# Altium footprint library Connectors.PcbLib: 86 footprints (part 5 of 6)
Each footprint in its own frame and in the unit in brackets; x right, y up, seen from the top. Pads: shape width x height; smd on the part's side, far side on the other; paste and mask are expansions set on the pad; w line width, h text height; cw(c..) or ccw(c..) is an arc to the next point about the centre after c.
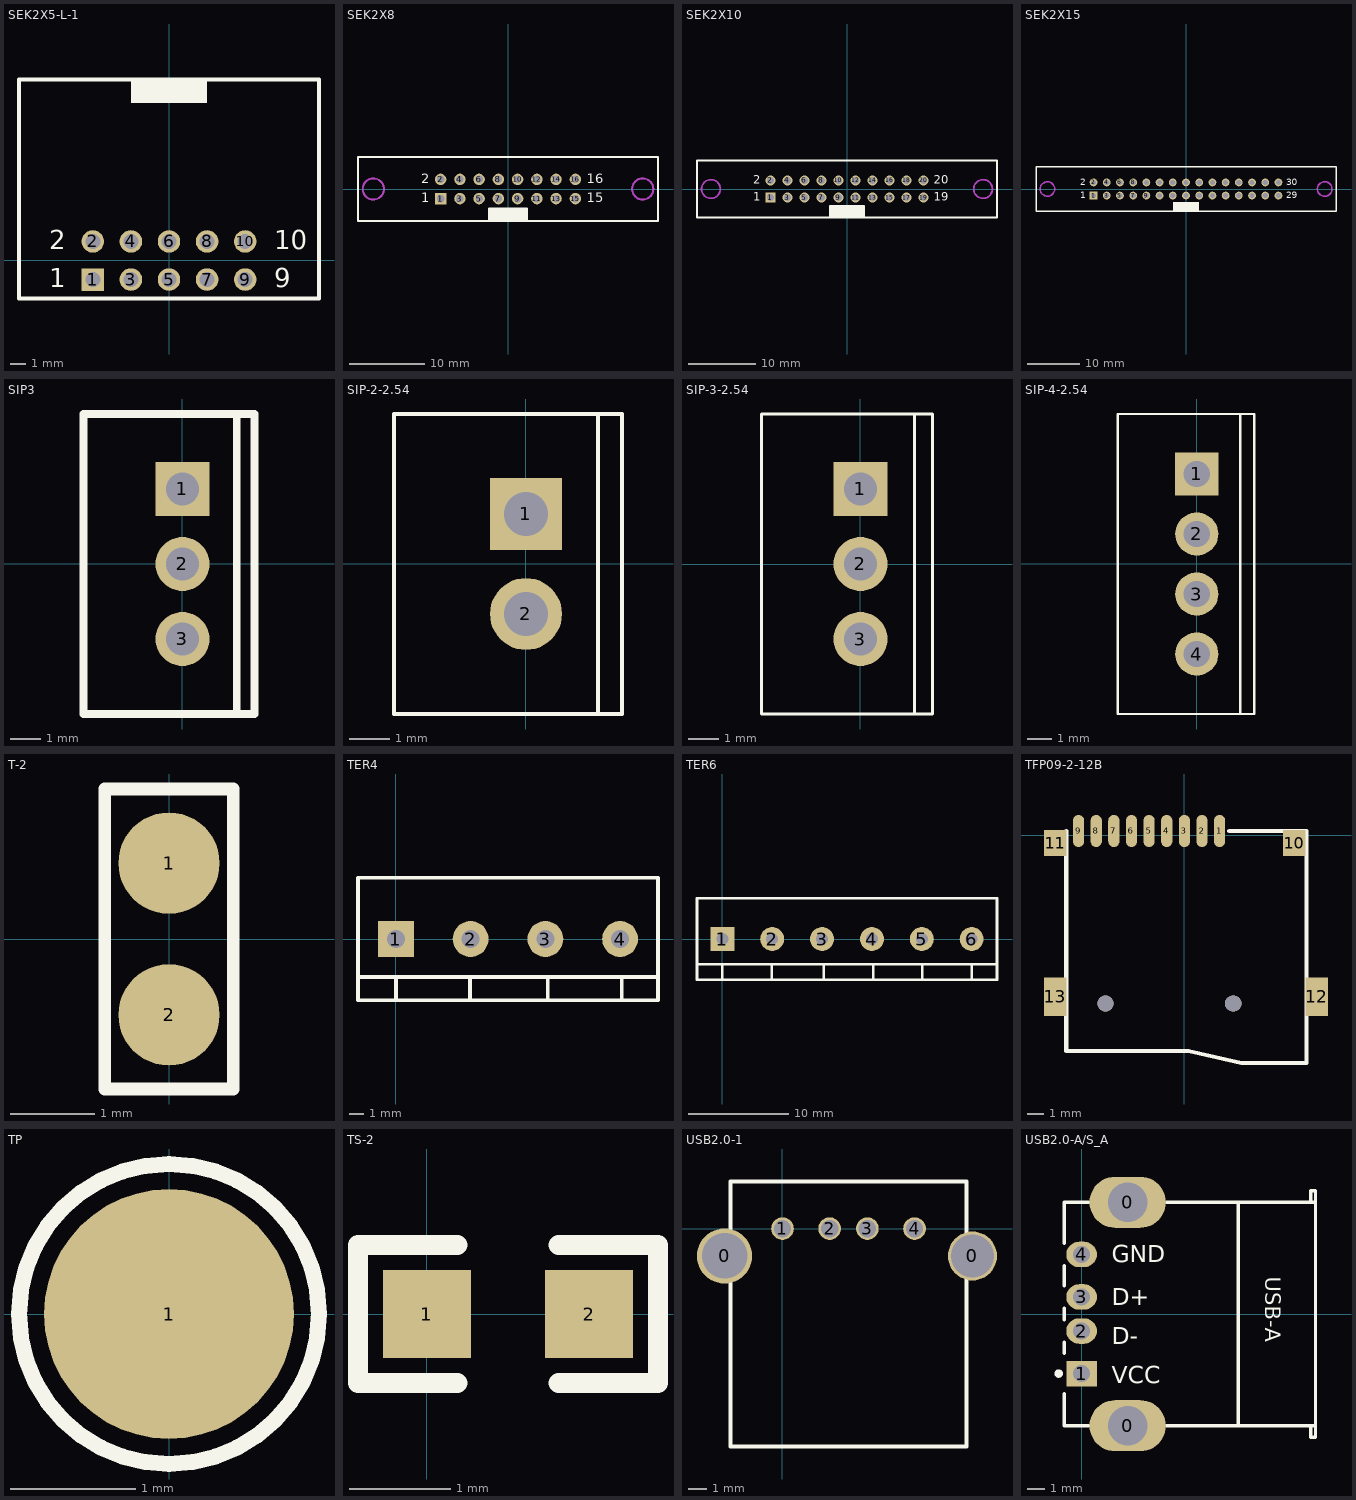
[diagram p4: the footprints below, top view; thin cyan lines are the x and y axes]

## SEK2X5-L-1 [mm] "Connector; Header; 5x2 Position"
pads (10):
  rect 1.5x1.5 hole 1: 1(-5.08,-1.27)
  round 1.5 hole 1: 2(-5.08,1.27) 3(-2.54,-1.27) 4(-2.54,1.27) 5(0,-1.27) 6(0,1.27) 7(2.54,-1.27) 8(2.54,1.27) 9(5.08,-1.27) 10(5.08,1.27)
Top Overlay:
  rectangle: -2.54,10.5 2.54,12
  lines w0.254: -10,-2.54 10,-2.54 10,12.07 -10,12.07 -10,-2.54
  text "2" at -8,0.762 h1.27
  text "1" at -8,-1.778 h1.27
  text "9" at 7,-1.778 h1.27
  text "10" at 7,0.762 h1.27

## SEK2X8 [mm] "Connector; Header; 2X8 Position"
pads (16):
  rect 1.5x1.5 hole 1: 1(-8.89,-1.27)
  round 1.5 hole 1: 2(-8.89,1.27) 3(-6.35,-1.27) 4(-6.35,1.27) 5(-3.81,-1.27) 6(-3.81,1.27) 7(-1.27,-1.27) 8(-1.27,1.27) 9(1.27,-1.27) 10(1.27,1.27) 11(3.81,-1.27) 12(3.81,1.27) 13(6.35,-1.27) 14(6.35,1.27) 15(8.89,-1.27) 16(8.89,1.27)
Top Overlay:
  rectangle: -2.54,-4.25 2.54,-2.54
  lines w0.254: -2.54,-4.25 -2.54,-2.54 2.54,-2.54 2.54,-4.25 ; -19.8,-4.25 -19.8,4.25 19.8,4.25 19.8,-4.25 -19.8,-4.25
  text "16" at 10.414,0.762 h1.27
  text "15" at 10.414,-1.778 h1.27
  text "1" at -11.43,-1.778 h1.27
  text "2" at -11.43,0.762 h1.27
Keep-Out Layer:
  circle w0.254: c17.78,0 r1.4
  circle w0.254: c-17.78,0 r1.4
Mechanical 1:
  circle w0.254: c-17.78,0 r1.4
  circle w0.254: c17.78,0 r1.4

## SEK2X10 [mm] "Connector; Header; 10x2 Position"
pads (20):
  rect 1.5x1.5 hole 1: 1(-11.43,-1.27)
  round 1.5 hole 1: 2(-11.43,1.27) 3(-8.89,-1.27) 4(-8.89,1.27) 5(-6.35,-1.27) 6(-6.35,1.27) 7(-3.81,-1.27) 8(-3.81,1.27) 9(-1.27,-1.27) 10(-1.27,1.27) 11(1.27,-1.27) 12(1.27,1.27) 13(3.81,-1.27) 14(3.81,1.27) 15(6.35,-1.27) 16(6.35,1.27) 17(8.89,-1.27) 18(8.89,1.27) 19(11.43,-1.27) 20(11.43,1.27)
Top Overlay:
  rectangle: -2.54,-4.25 2.54,-2.54
  lines w0.254: -2.54,-4.25 -2.54,-2.54 2.54,-2.54 2.54,-4.25 ; -22.4,-4.25 22.4,-4.25 22.4,4.25 -22.4,4.25 -22.4,-4.25
  text "2" at -13.97,0.762 h1.27
  text "1" at -13.97,-1.778 h1.27
  text "19" at 12.954,-1.778 h1.27
  text "20" at 12.954,0.762 h1.27
Keep-Out Layer:
  circle w0.254: c-20.32,0 r1.4
  circle w0.254: c20.32,0 r1.4
Mechanical 1:
  circle w0.254: c20.32,0 r1.4
  circle w0.254: c-20.32,0 r1.4

## SEK2X15 [mm] "Connector; Header; 15x2 Position"
pads (30):
  rect 1.5x1.5 hole 1: 1(-17.78,-1.27)
  round 1.5 hole 1: 2(-17.78,1.27) 3(-15.24,-1.27) 4(-15.24,1.27) 5(-12.7,-1.27) 6(-12.7,1.27) 7(-10.16,-1.27) 8(-10.16,1.27) 9(-7.62,-1.27) 10(-7.62,1.27) 11(-5.08,-1.27) 12(-5.08,1.27) 13(-2.54,-1.27) 14(-2.54,1.27) 15(0,-1.27) 16(0,1.27) 17(2.54,-1.27) 18(2.54,1.27) 19(5.08,-1.27) 20(5.08,1.27) 21(7.62,-1.27) 22(7.62,1.27) 23(10.16,-1.27) 24(10.16,1.27) 25(12.7,-1.27) 26(12.7,1.27) 27(15.24,-1.27) 28(15.24,1.27) 29(17.78,-1.27) 30(17.78,1.27)
Top Overlay:
  rectangle: -2.5,-4.25 2.5,-2.54
  lines w0.254: -28.85,-4.25 28.85,-4.25 28.85,4.25 -28.85,4.25 -28.85,-4.25
  text "2" at -20.32,0.762 h1.27
  text "1" at -20.32,-1.778 h1.27
  text "30" at 19.304,0.762 h1.27
  text "29" at 19.304,-1.778 h1.27
Keep-Out Layer:
  circle w0.254: c-26.67,0 r1.4
  circle w0.254: c26.67,0 r1.4
Mechanical 1:
  circle w0.254: c26.67,0 r1.4
  circle w0.254: c-26.67,0 r1.4

## SIP3 [mm]
pads (3):
  rect 1.8x1.8 hole 1.1: 1(0,2.5)
  round 1.8 hole 1.1: 2(0,0) 3(0,-2.5)
Top Overlay:
  lines w0.254: 1.804,-5 1.804,5 ; -3.3,-5 2.4,-5 2.4,5 -3.3,5 -3.3,-5

## SIP-2-2.54 [mm] "SIP-2-2.54"
pads (2):
  rect 1.8x1.8 hole 1.1: 1(0,1.25)
  round 1.8 hole 1.1: 2(0,-1.25)
Top Overlay:
  lines w0.1: 1.804,-3.75 1.804,3.75 ; -3.3,-3.75 -3.3,3.75 2.4,3.75 2.4,-3.75 -3.3,-3.75

## SIP-3-2.54 [mm] "SIP-3-2.54"
pads (3):
  rect 1.8x1.8 hole 1.1: 1(0,2.5)
  round 1.8 hole 1.1: 2(0,0) 3(0,-2.5)
Top Overlay:
  lines w0.1: 1.804,5 1.804,-4.997 1.807,-5 ; -3.3,-5 -3.3,5 2.4,5 2.4,-5 -3.3,-5

## SIP-4-2.54 [mm] "SIP-4-2.54"
pads (4):
  rect 1.8x1.8 hole 1.1: 1(0,3.75)
  round 1.8 hole 1.1: 2(0,1.25) 3(0,-1.25) 4(0,-3.75)
Top Overlay:
  lines w0.1: 1.804,-6.25 1.804,6.25 ; 1.804,-3.747 1.807,-3.75 ; -3.3,-6.25 -3.3,6.25 2.4,6.25 2.4,-6.25 -3.3,-6.25

## T-2 [mm] "RESET 2"
pads (2):
  round 1.2 smd: 1(0,0.9) 2(0,-0.9)
Top Overlay:
  lines w0.15: -0.762,-1.778 0.762,-1.778 0.762,1.778 -0.762,1.778 -0.762,-1.778

## TER4 [mm] "Terminals ,4Pin,5.08mm"
pads (4):
  rect 2.4x2.4 hole 1.2: 1(0,0)
  round 2.4 hole 1.2: 2(5,0) 3(10,0) 4(15,0)
Top Overlay:
  lines w0.127: 17.373,-2.54 17.5,-2.413
  lines w0.254: -2.54,-2.54 17.54,-2.54 ; 0,-4.1 0,-2.54 ; 4.953,-3.973 4.953,-2.54 ; 10.16,-4.1 10.16,-2.54 ; 15.113,-4.1 15.113,-2.54 ; -2.54,-4.1 17.54,-4.1 17.54,4.1 -2.54,4.1 -2.54,-4.1

## TER6 [mm] "Terminals,3Pin,5.08mm"
pads (6):
  rect 2.4x2.4 hole 1.2: 1(0,0)
  round 2.4 hole 1.2: 2(5,0) 3(10,0) 4(15,0) 5(20,0) 6(25,0)
Top Overlay:
  lines w0.254: -2.54,-2.54 27.54,-2.54 ; 0,-4.1 0,-2.54 ; 4.953,-3.973 4.953,-2.54 ; 10.16,-4.1 10.16,-2.54 ; 15.113,-4.1 15.113,-2.54 ; 20.066,-4.1 20.066,-2.54 ; 25.019,-4.1 25.019,-2.54 ; -2.54,-4.1 -2.54,4.1 27.54,4.1 27.54,-4.1 -2.54,-4.1

## TFP09-2-12B [mm]
pads (13):
  oval 0.7x2 smd: 1(2.2,0.254) 2(1.1,0.254) 3(0,0.254) 4(-1.1,0.254) 5(-2.2,0.254) 6(-3.3,0.254) 7(-4.4,0.254) 8(-5.5,0.254) 9(-6.6,0.254)
  rect 1.4x1.6 smd: 10(6.85,-0.5) 11(-8.054,-0.5)
  rect 1.4x2.4 smd: 12(8.258,-10.1) 13(-8.054,-10.1)
via -4.93,-10.5 diameter 1 hole 1
via 3.05,-10.5 diameter 1 hole 1
Top Overlay:
  lines w0.254: -7.366,0.254 -7.366,-13.462 0.254,-13.462 3.556,-14.224 7.62,-14.224 7.62,0.254 2.8,0.254

## TP [mm] "test"
pads (1):
  round 2 smd: 1(0,0)
Top Overlay:
  circle w0.127: c0,0 r1.2

## TS-2 [mm] "1.6*0.8mm"
pads (2):
  rect 0.87x0.87 smd: 1(0,0) 2(1.6,0)
Top Overlay:
  lines w0.2: -0.68,-0.68 -0.68,0.68 ; -0.65,-0.68 0.3,-0.68 ; -0.65,0.68 0.3,0.68 ; 1.3,-0.68 2.28,-0.68 2.28,0.68 1.3,0.68

## USB2.0-1 [mm]
pads (6):
  round 2.921 hole 2.413: 0(-3.07,-1.45)
  round 2.6 hole 2.3: 0(10.07,-1.45)
  round 1.2 hole 0.92: 1(0,0) 2(2.5,0) 3(4.5,0) 4(7,0)
Top Overlay:
  lines w0.2: -2.75,-11.55 9.75,-11.55 9.75,2.5 -2.75,2.5 -2.75,-11.55

## USB2.0-A/S_A [mm] "A型直插母头"
height 7.01
pads (6):
  oval 4.5x3 hole 2.3: 0(2.71,-6.57) 0(2.71,6.57)
  rect 1.8x1.5 hole 1: 1(0,-3.5)
  oval 1.8x1.5 hole 1: 2(0,-1) 3(0,1) 4(0,3.5)
Top Overlay:
  circle w0.25: c-1.35,-3.5 r0.125
  lines w0.2: -1.01,-4.7 -1.01,-6.565 0.41,-6.565 ; -1.01,-2.3 -1.01,-1.66 ; -1.01,-0.34 -1.01,0.34 ; -1.01,1.66 -1.01,2.84 ; -1.01,4.16 -1.01,6.565 0.41,6.565 ; 5.01,-6.565 13.752,-6.565 ; 5.01,6.565 13.752,6.565 ; 13.462,-6.565 13.462,-7.25 13.752,-7.25 13.752,7.25 13.462,7.25 13.462,6.565
  lines w0.203: 9.21,-6.565 9.21,6.565
  text "GND" at 1.778,3.048 h1.02
  text "D+" at 1.778,0.508 h1.02
  text "D-" at 1.778,-1.778 h1.02
  text "VCC" at 1.778,-4.064 h1.02
  text "USB-A" at 10.8,2.2 h0.9
3D body: height 6.8, standoff -4.31, extent -0.605,-7.342 13.7,7.342